# EAGLE library part L6205* (library _hhn_L6205_v2)
L6205* DMOS DUAL FULL BRIDGE DRIVER Cases: L6205N (PowerDIP20), L6205D (PowerSO20) Author: Dipl.-Ing. FH Rainer Bayer, rainer.bayer@hs-heilbronn.de, www.ing-rb.de/hhn Notes: 1. ENA, ENB pin direction "I/O": see data sheet (ENA and ENB pins open collector driving vs. push-pull driving) 2. SENSEA, SENSEB pin direction "PWR": see data sheet (power ground)
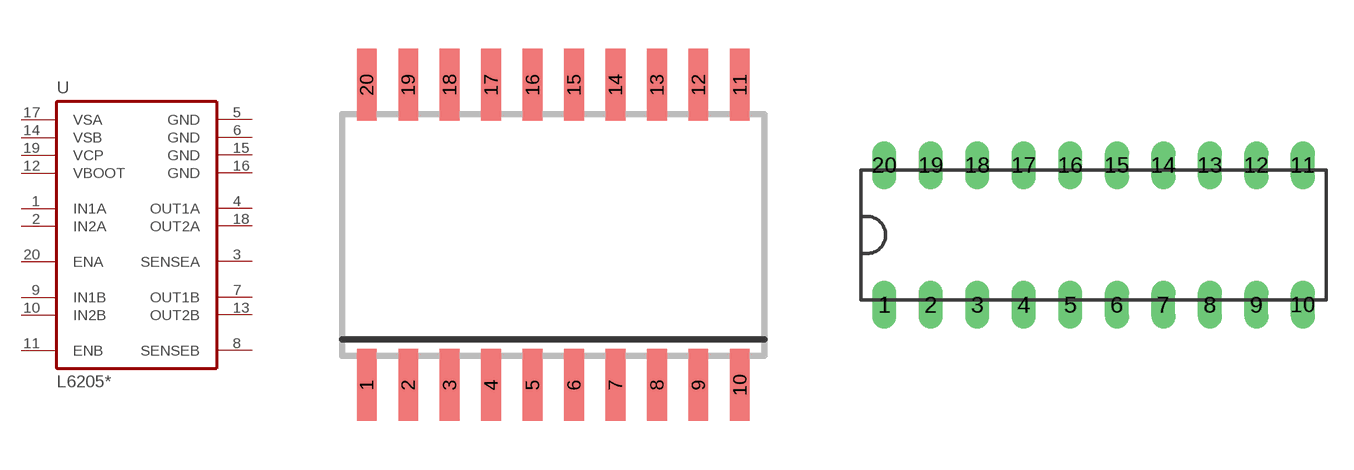
[diagram p0: symbol with the pads of SO20-DW; footprints SO20-DW, DIL20]

Designator prefix U

## L6205D  [SO20-DW]
1  IN1A  in
2  IN2A  in
3  SENSEA  pwr
4  OUT1A  out
5  GND  pwr
6  GND  pwr
7  OUT1B  out
8  SENSEB  pwr
9  IN1B  in
10  IN2B  in
11  ENB
12  VBOOT  pas
13  OUT2B  out
14  VSB  pwr
15  GND  pwr
16  GND  pwr
17  VSA  pwr
18  OUT2A  out
19  VCP  pas
20  ENA

## L6205N  [DIL20]
Pads as for SO20-DW

## Footprint SO20-DW (pad centres in mm)
SO20 Wide (362.5 mil [distance between rows, pad-center])
smd 0.6 x 2.2: 1 -5.715,-4.6; 2 -4.445,-4.6; 3 -3.175,-4.6; 4 -1.905,-4.6; 5 -0.635,-4.6; 6 0.635,-4.6; 7 1.905,-4.6; 8 3.175,-4.6; 9 4.445,-4.6; 10 5.715,-4.6; 11 5.715,4.6; 12 4.445,4.6; 13 3.175,4.6; 14 1.905,4.6; 15 0.635,4.6; 16 -0.635,4.6; 17 -1.905,4.6; 18 -3.175,4.6; 19 -4.445,4.6; 20 -5.715,4.6

## Footprint DIL20 (pad centres in mm)
DIP20 300mil
drill 0.8 long: 1 -11.43,-3.81; 2 -8.89,-3.81; 3 -6.35,-3.81; 4 -3.81,-3.81; 5 -1.27,-3.81; 6 1.27,-3.81; 7 3.81,-3.81; 8 6.35,-3.81; 9 8.89,-3.81; 10 11.43,-3.81; 11 11.43,3.81; 12 8.89,3.81; 13 6.35,3.81; 14 3.81,3.81; 15 1.27,3.81; 16 -1.27,3.81; 17 -3.81,3.81; 18 -6.35,3.81; 19 -8.89,3.81; 20 -11.43,3.81